# Altium footprint library M20-7910442R.PcbLib: 1 footprints
Each footprint in its own frame and in the unit in brackets; x right, y up, seen from the top. Pads: shape width x height; smd on the part's side, far side on the other; paste and mask are expansions set on the pad; w line width, h text height; cw(c..) or ccw(c..) is an arc to the next point about the centre after c.
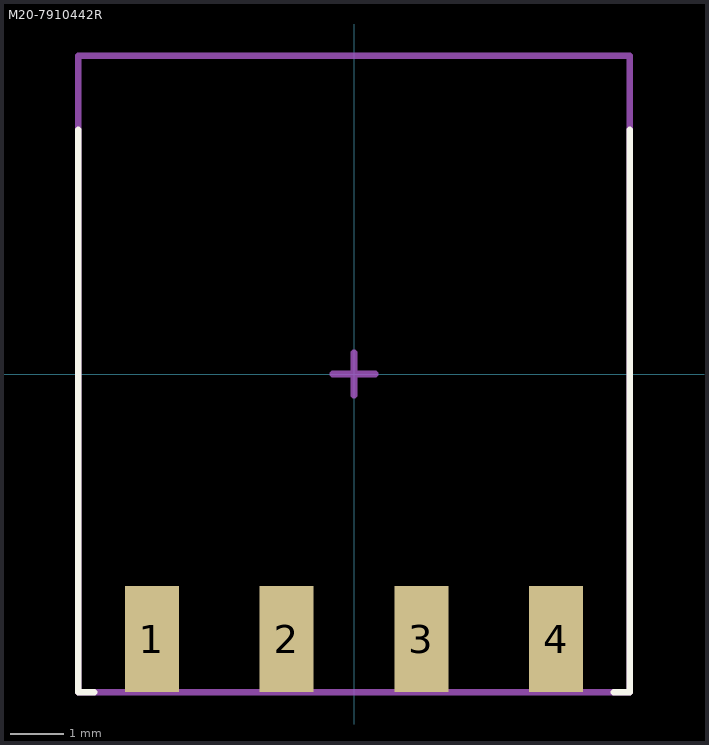
[diagram p0: the footprint, top view; thin cyan lines are the x and y axes]

## M20-7910442R [mm]
height 2.5
pads (4):
  rect 1.02x2 smd mask+0.051: 1(-3.81,-5) 2(-1.27,-5) 3(1.27,-5) 4(3.81,-5)
Top Overlay:
  lines w0.127: -5.2,4.6 -5.2,-6 -4.9,-6 ; 4.9,-6 5.2,-6 5.2,4.6
Mechanical 13:
  lines w0.127: -5.2,-6 5.2,-6 5.2,6 -5.2,6 -5.2,-6
Mechanical 15:
  lines w0.127: -0.4,0 0,0 ; 0,-0.4 0,0 ; 0,0.4 0,0 ; 0.4,0 0,0
3D body "m20-7910442_asm.stp": height 2.5, standoff 0, extent -5.205,-5.948 5.205,5.95